# EAGLE library part MAX31856_ADAFRUIT (library GFE)
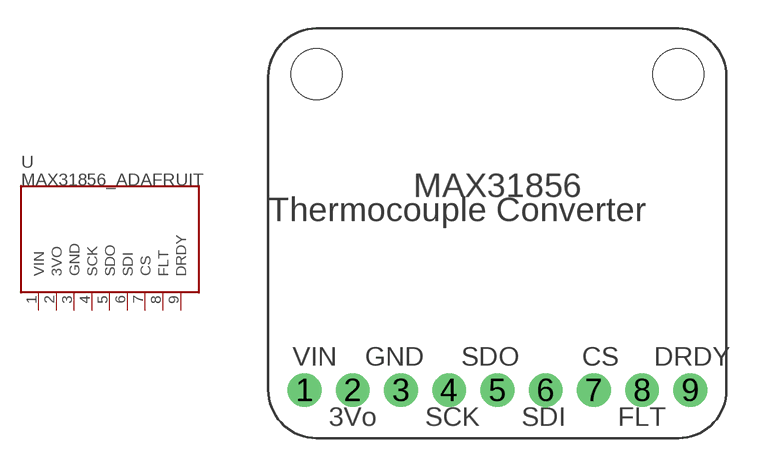
[diagram p3: symbol with the pads of MAX31856_ADAFRUIT; footprint MAX31856_ADAFRUIT]

Designator prefix U

## MAX31856_ADAFRUIT  [MAX31856_ADAFRUIT]
1  VIN
2  3VO
3  GND
4  SCK
5  SDO
6  SDI
7  CS
8  FLT
9  DRDY

## Footprint MAX31856_ADAFRUIT (pad centres in mm)
drill 1 pad 1.778: 1 1.905,2.54; 2 4.445,2.54; 3 6.985,2.54; 4 9.525,2.54; 5 12.065,2.54; 6 14.605,2.54; 7 17.145,2.54; 8 19.685,2.54; 9 22.225,2.54
hole 2.7 at 2.54,19.177
hole 2.7 at 21.59,19.177